# Altium footprint library 4N35.PcbLib: 1 footprints
Each footprint in its own frame and in the unit in brackets; x right, y up, seen from the top. Pads: shape width x height; smd on the part's side, far side on the other; paste and mask are expansions set on the pad; w line width, h text height; cw(c..) or ccw(c..) is an arc to the next point about the centre after c.
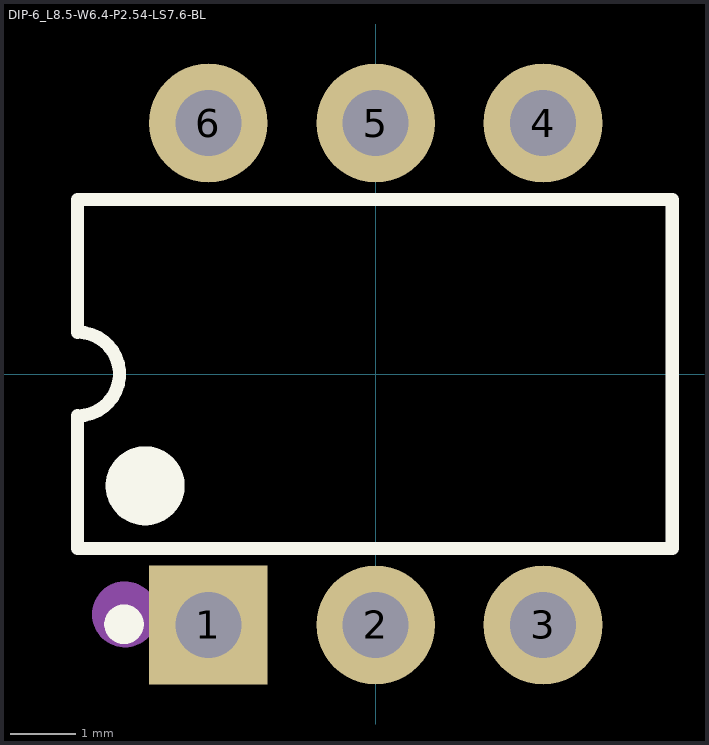
[diagram p0: the footprint, top view; thin cyan lines are the x and y axes]

## DIP-6_L8.5-W6.4-P2.54-LS7.6-BL [mm]
pads (6):
  rect 1.8x1.8 hole 1 paste-2539.97 mask+0.051: 1(-2.54,-3.81)
  round 1.8 hole 1 paste-2539.97 mask+0.051: 2(0,-3.81) 3(2.54,-3.81) 4(2.54,3.81) 5(0,3.81) 6(-2.54,3.81)
Top Overlay:
  lines w0.2: -4.524,-2.649 -4.524,-0.635 ccw(c-4.524,0) -4.524,0.635 -4.524,2.649 4.501,2.649 4.501,-2.649 -4.524,-2.649
  lines w0.3: -3.97,-3.8 ccw(c-3.82,-3.799) -3.97,-3.797
  lines w0.6: -3.8,-1.699 ccw(c-3.5,-1.697) -3.8,-1.694
Mechanical 15:
  circle w0.5: c-3.805,-3.649 r0.25
3D body "4N35.STEP": height 4.8, standoff -2.95, extent -3.56,-4.405 3.56,4.405